# EAGLE library part LY330ALH (library gyrolib)
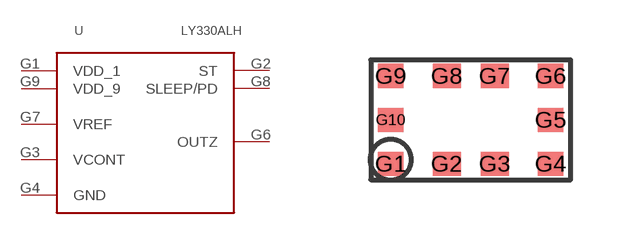
[diagram p4: symbol with the pads of LGA-10; footprint LGA-10]

Designator prefix -

## LY330ALH  [LGA-10]
G1  VDD_1
G2  ST
G3  VCONT
G4  GND
G6  OUTZ
G7  VREF
G8  SLEEP/PD
G9  VDD_9

## Footprint LGA-10 (pad centres in mm)
smd 0.635 x 0.6: G1 -2,-1.1; G4 2,-1.1; G5 2,0; G6 2,1.1; G9 -2,1.1; G10 -2,0
smd 0.7 x 0.6: G2 -0.6,-1.1; G3 0.6,-1.1; G7 0.6,1.1; G8 -0.6,1.1